# Altium integrated library BJT.IntLib: 1 symbol
Pins are listed as number, name and electrical type; pins without a type are passive.

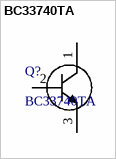
[diagram p0: symbol BC33740TA]

## BC33740TA
designator Q?
BC337 Series 45 V CE Breakdown .8 A NPN Epitaxial Silicon Transistor TO-92; Manufacturer: ON Semiconductor; Max Collector Current: 800mA; Collector Emitter Breakdown Voltage: 45V; Collector Emitter Voltage (VCEO): 700mV; Max Power Dissipation: 625mW; Transition Frequency: 100MHz; Supplier: Rs; Supplier Part Number: 6711119; Manufacturer Part Number: BC33740TA; RoHS: Yes; Category: Uncategorized; Stock: 40; Mounting Technology: Through Hole; Case/Package: TO-226-3; Packaging: Tape and Reel; ComponentLink1URL: http://www.farnell.com/datasheets/2299661.pdf?src-supplier=Farnell; ComponentLink1Description: http://www.farnell.com/datasheets/2299661.pdf?src-supplier=Farnell; ComponentLink2URL: https://www.onsemi.com/pub/Collateral/BC338-D.pdf?src-supplier=Digi-Key; ComponentLink2Description: https://www.onsemi.com/pub/Collateral/BC338-D.pdf?src-supplier=Digi-Key; ComponentLink3URL: https://www.fairchildsemi.com/datasheets/BC/BC337.pdf?src-supplier=Digi-Key; ComponentLink3Description: https://www.fairchildsemi.com/datasheets/BC/BC337.pdf?src-supplier=Digi-Key; Supplier 1: LCSC; Supplier Part Number 1: C236949; Supplier 2: Mouser; Supplier Part Number 2: 512-BC33740TA; Supplier 3: Digi-Key; Supplier Part Number 3: BC33740TACT-ND; Supplier 4: Digi-Key; Supplier Part Number 4: BC33740TATB-ND
footprint TO-92
pins: 1 C, 2 B, 3 E